# Altium integrated library ad_converters.IntLib: 9 symbols
Pins are listed as number, name and electrical type; pins without a type are passive.

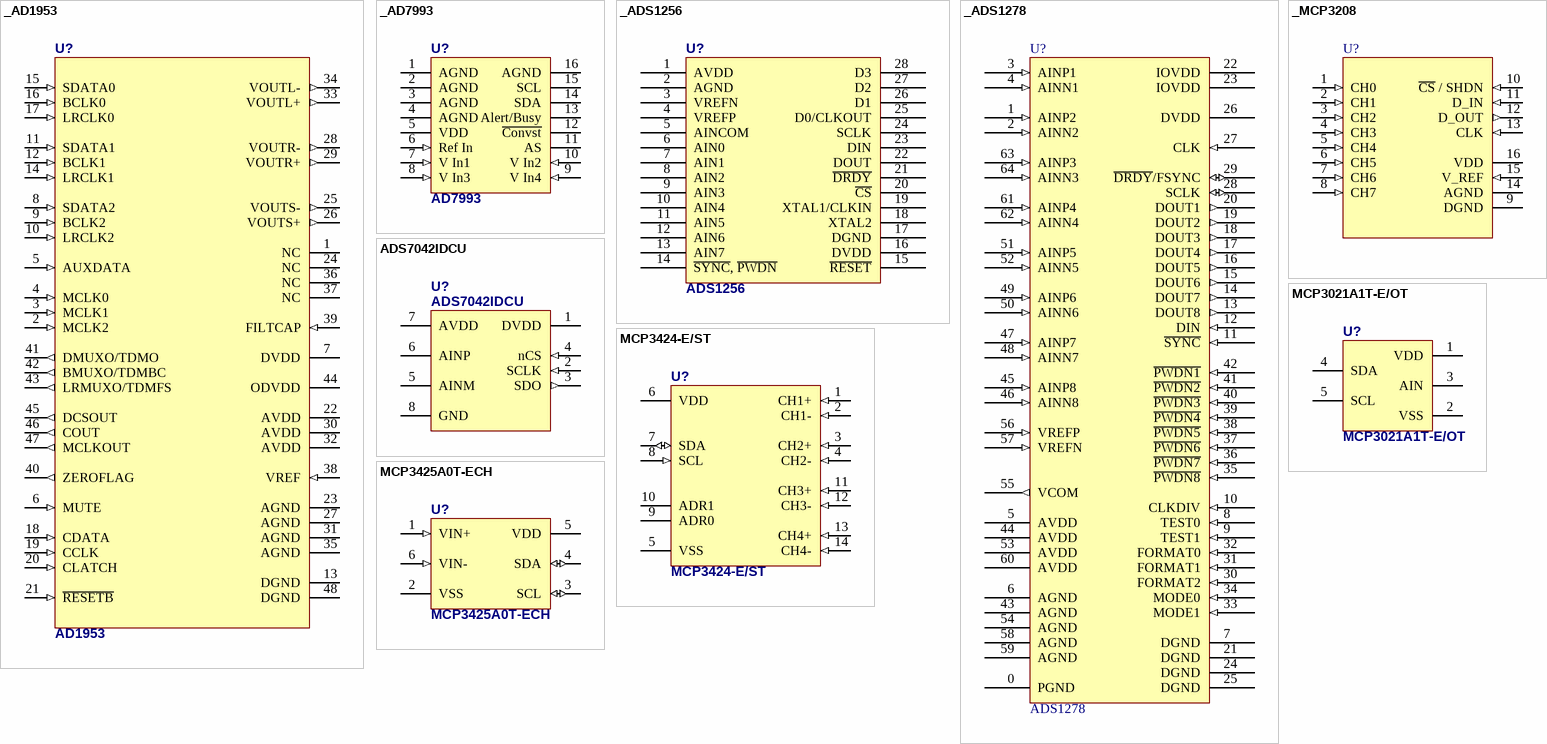
[diagram p0: symbols _AD1953 to MCP3425A0T-ECH]

## _AD1953
designator U?, comment AD1953
SigmaDSP 3-Channel, 26-Bit  Signal Processing DAC; Published: 08-May-2006; PackageReference: LQFP48
footprint LQFP48 (QFP; 48 Leads; Body 7 x 7 mm; Pitch 0.5 mm)
pins: 1 NC "No Connect", 2 MCLK2 (in) "Master Clock Input 2 256/512 Fs", 3 MCLK1 (in) "Master Clock Input 1 256/512 Fs", 4 MCLK0 (in) "Master Clock Input 0 256/512 Fs", 5 AUXDATA (in) "Auxiliary Serial Data Input", 6 MUTE (in) "Mute Signal, Initiates Volume Ramp-Down", 7 DVDD (power) "Digital Supply for DSP Core, 4.5 V to 5.5 V", 8 SDATA2 (in) "Serial Data Input 2", 9 BCLK2 (in) "Bit Clock 2", 10 LRCLK2 (in) "Left/Right Clock 2", 11 SDATA1 (in) "Serial Data Input 1", 12 BCLK1 (in) "Bit Clock 1", 13 DGND (power) "Digital Ground", 14 LRCLK1 (in) "Left/Right Clock 1", 15 SDATA0 (in) "Serial Data Input 0", 16 BCLK0 (in) "Bit Clock 0", 17 LRCLK0 (in) "Left/Right Clock 0", 18 CDATA (in) "SPI Data Input", 19 CCLK (in) "SPI Data Bit Clock", 20 CLATCH (in) "SPI Data Framing Signal", 21 ~{RESETB} (in) "Reset Signal, Active Low", 22 AVDD (power) "Analog 5 V Supply", 23 AGND (power) "Analog Ground", 24 NC "No Connect", 25 VOUTS- (out) "Negative Sub Analog DAC Output", 26 VOUTS+ (out) "Positive Sub Analog DAC Output", 27 AGND (power) "Analog Ground", 28 VOUTR- (out) "Negative Right Analog DAC Output", 29 VOUTR+ (out) "Positive Right Analog DAC Output", 30 AVDD (power) "Analog 5 V Supply", 31 AGND (power) "Analog Ground", 32 AVDD (power) "Analog 5 V Supply", 33 VOUTL+ (out) "Positive Left Analog DAC Output", 34 VOUTL- (out) "Negative Left Analog DAC Output", 35 AGND (power) "Analog Ground", 36 NC "No Connect", 37 NC "No Connect", 38 VREF (in) "Connection for Filtered AVDD/2", 39 FILTCAP (in) "Connection for Noise Reduction Capacitor", 40 ZEROFLAG (out) "Zero Flag Output. High when both left and right channels are 0 for 1024 frames.", 41 DMUXO/TDMO (out) "Dual-function Pin: Serial Data MUX Output/TDM Mode Output Data", 42 BMUXO/TDMBC (out) "Dual-function Pin: Bit Clock MUX Output/TDM Mode Bit Clock Output (256 Fs)", 43 LRMUXO/TDMFS (out) "Dual-function Pin: Left/Right Clock MUX Output/ TDM Mode Frame Sync Clock Output", 44 ODVDD (power) "Digital Supply Pin for Output Drivers, 2.5 V to 5.5 V", 45 DCSOUT (out) "Data Capture Serial Output for Data Capture Registers. Use in conjunction with selected LRCLK and BCLK to form a 3-wire output.", 46 COUT (out) "SPI Data Output, Three-Stated when Inactive", 47 MCLKOUT (out) "Master Clock Output 512/256 Fs (Frequency Selected by SPI Register)", 48 DGND (power) "Digital Ground"

## _AD7993
designator U?, comment AD7993
footprint TSSOP16 (Footprint not found)
pins: 1 AGND (power), 2 AGND (power), 3 AGND (power), 4 AGND (power), 5 VDD (power), 6 Ref In (in), 7 V In1  (in), 8 V In3 (in), 9 V In4 (in), 10 V In2 (in), 11 AS, 12 ~{Convst}, 13 Alert/Busy, 14 SDA, 15 SCL, 16 AGND (power)

## _ADS1256
designator U?, comment ADS1256
24bit 30ksps ADC w/mux 28SSOP
footprint SSOP28
pins: 1 AVDD, 2 AGND, 3 VREFN, 4 VREFP, 5 AINCOM, 6 AIN0, 7 AIN1, 8 AIN2, 9 AIN3, 10 AIN4, 11 AIN5, 12 AIN6, 13 AIN7, 14 ~{SYNC}, ~{PWDN}, 15 ~{RESET}, 16 DVDD, 17 DGND, 18 XTAL2, 19 XTAL1/CLKIN, 20 ~{CS}, 21 ~{DRDY}, 22 DOUT, 23 DIN, 24 SCLK, 25 D0/CLKOUT, 26 D1, 27 D2, 28 D3

## _ADS1278
designator U?, comment ADS1278
Quad/Octal, Simultaneous Sampling, 24-Bit Analog-to-Digital Converters; Published: 8-Jul-2008; DatasheetVersion: May-2008; PackageReference: S-PQFP-G64; Publisher: mmakow; PackageDescription: 64-Pin PowerPAD Plastic Quad FlatPack 0.5 mm Pitch; ComponentLink1Description: Manufacturer Link; ComponentLink1URL: http://www.ti.com/
footprint HTQFP64_L (64-Pin PowerPAD Plastic Quad FlatPack 0.5 mm Pitch,  IPC High Density)
pins: 0 PGND (power), 1 AINP2 (in), 2 AINN2 (in), 3 AINP1 (in), 4 AINN1 (in), 5 AVDD (power), 6 AGND (power), 7 DGND (power), 8 TEST0 (in), 9 TEST1 (in), 10 CLKDIV (in), 11 ~{SYNC} (in), 12 DIN (in), 13 DOUT8 (out), 14 DOUT7 (out), 15 DOUT6 (out), 16 DOUT5 (out), 17 DOUT4 (out), 18 DOUT3 (out), 19 DOUT2 (out), 20 DOUT1 (out), 21 DGND (power), 22 IOVDD (power), 23 IOVDD (power), 24 DGND (power), 25 DGND (power), 26 DVDD (power), 27 CLK (in), 28 SCLK (io), 29 ~{DRDY}/FSYNC (io), 30 FORMAT2 (in), 31 FORMAT1 (in), 32 FORMAT0 (in), 33 MODE1 (in), 34 MODE0 (in), 35 ~{PWDN8} (in), 36 ~{PWDN7} (in), 37 ~{PWDN6} (in), 38 ~{PWDN5} (in), 39 ~{PWDN4} (in), 40 ~{PWDN3} (in), 41 ~{PWDN2} (in), 42 ~{PWDN1} (in), 43 AGND (power), 44 AVDD (power), 45 AINP8 (in), 46 AINN8 (in), 47 AINP7 (in), 48 AINN7 (in), 49 AINP6 (in), 50 AINN6 (in), 51 AINP5 (in), 52 AINN5 (in), 53 AVDD (power), 54 AGND (power), 55 VCOM (out), 56 VREFP (in), 57 VREFN (in), 58 AGND (power), 59 AGND (power), 60 AVDD (power), 61 AINP4 (in), 62 AINN4 (in), 63 AINP3 (in), 64 AINN3 (in)

## _MCP3208
designator U?
8-Channel 12-Bit A/D Converter with SPI Serial Interface; Published: 03-Feb-2006
footprint SO16 (Small Outline; 16 Leads; Body Width 3.9 mm; Pitch 1.27 mm)
pins: 1 CH0 (in), 2 CH1 (in), 3 CH2 (in), 4 CH3 (in), 5 CH4 (in), 6 CH5 (in), 7 CH6 (in), 8 CH7 (in), 9 DGND (power), 10 ~{CS} / SHDN (in), 11 D_IN (in), 12 D_OUT (out), 13 CLK (in), 14 AGND (power), 15 V_REF (in), 16 VDD (power)

## ADS7042IDCU
designator U?
Ultra-Low Power, Ultra-Small Size, 12-Bit, 1-MSPS, SAR ADC; Supplier 1: Mouser; Supplier 2: Farnell; Supplier 3: Mouser; Supplier Part Number 1: 595-ADS7042IDCUR; Supplier Part Number 2: 2450725; Supplier Part Number 3: 595-ADS7042IDCUT
footprint VSSOP8_N (SOP, 8-Leads, Body 2.4x2.1mm, Pitch 0.5mm, IPC Medium Density)
pins: 1 DVDD (power), 2 SCLK (in), 3 SDO (out), 4 nCS (in), 5 AINM, 6 AINP, 7 AVDD (power), 8 GND (power)

## MCP3021A1T-E/OT
designator U?
Low Power 10-Bit A/D Converter With I2C™ Interface; Published: 14-Sep-2006
footprint SOT-23-5 (, AKA: SOT753 (NXP), TSOP5 (NXP))
pins: 1 VDD, 2 VSS, 3 AIN, 4 SDA, 5 SCL

## MCP3424-E/ST
designator U?
18-Bit, 4-Channel Delta-Sigma Analog-to-Digital Converter with I2C Interface and On-Board Reference; Supplier 1: Farnell; Supplier 2: TME; Supplier 3: Farnell; Supplier 4: TME; Supplier Part Number 1: 1690407; Supplier Part Number 2: MCP3423-E/UN; Supplier Part Number 3: 1630423; Supplier Part Number 4: MCP3424-E/ST
footprint TSSOP14 (JEDEC MO-153 AB-1 (TSSOP-14))
pins: 1 CH1+ (in), 2 CH1- (in), 3 CH2+ (in), 4 CH2- (in), 5 VSS (power), 6 VDD (power), 7 SDA (io), 8 SCL (in), 9 ADR0, 10 ADR1, 11 CH3+ (in), 12 CH3- (in), 13 CH4+ (in), 14 CH4- (in)

## MCP3425A0T-ECH
designator U?
16-Bit Analog-to-Digital Converter with I2C Interface and On-Board Reference; Supplier 1: Farnell; Supplier 2: Farnell; Supplier 3: Farnell; Supplier 4: TME; Supplier Part Number 1: 1578433; Supplier Part Number 2: 2371380; Supplier Part Number 3: 1578433RL; Supplier Part Number 4: MCP3425A0T-ECH
footprint SOT-23-6 (SOT23-6, AKA: SOT-26 (Diodes), SuperSOT-6 (Fairchild), SOT753 (NXP), TSOP5 (NXP))
pins: 1 VIN+ (in), 2 VSS (power), 3 SCL (io), 4 SDA (io), 5 VDD (power), 6 VIN- (in)